# EAGLE library part TPS61170 (library robotter)
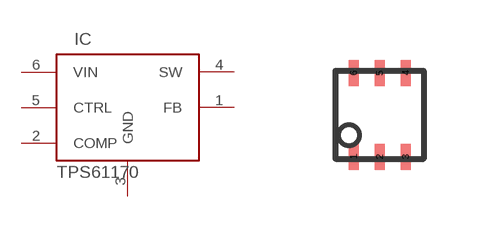
[diagram p3: symbol with the pads of QFN6; footprint QFN6]

Designator prefix IC

## TPS61170DRV  [QFN6]
1  FB
2  COMP
3  GND  pwr
4  SW  pwr
5  CTRL
6  VIN  pwr

## Footprint QFN6 (pad centres in mm)
smd 0.25 x 0.65: 1 -0.65,-1.05; 2 0,-1.05; 3 0.65,-1.05; 4 0.65,1.05; 5 0,1.05; 6 -0.65,1.05